# Altium footprint library SOT323-1.PcbLib: 1 footprints
Each footprint in its own frame and in the unit in brackets; x right, y up, seen from the top. Pads: shape width x height; smd on the part's side, far side on the other; paste and mask are expansions set on the pad; w line width, h text height; cw(c..) or ccw(c..) is an arc to the next point about the centre after c.
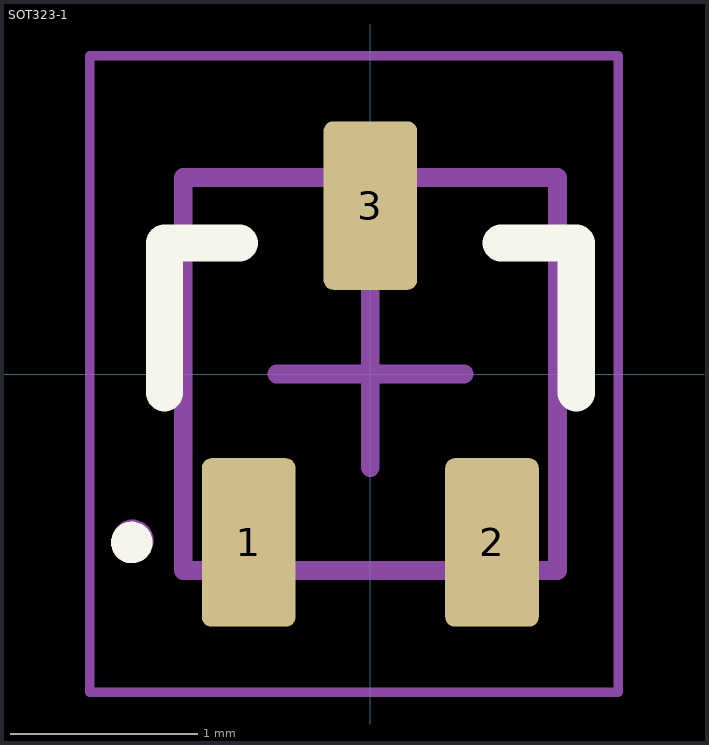
[diagram p0: the footprint, top view; thin cyan lines are the x and y axes]

## SOT323-1 [mm]
pads (3):
  rrect20% 0.5x0.9 smd: 1(-0.65,-0.9) 2(0.65,-0.9) 3(0,0.9)
Top Overlay:
  circle w0.12: c-1.275,-0.9 r0.051
  lines w0.2: -1.1,-0.1 -1.1,0.7 -0.7,0.7 ; 0.7,0.7 1.1,0.7 1.1,-0.1
Mechanical 1:
  circle w0.12: c-1.275,-0.9 r0.051
  circle w0.12: c-1.27,-0.889 r0.051
  lines w0.1: -1,-1.05 -1,1.05 1,1.05 1,-1.05 -1,-1.05
  text ".Designator" at -0.508,-0.127 h0.38
Mechanical 15:
  lines w0.05: -1.5,-1.7 1.325,-1.7 1.325,1.7 -1.5,1.7 -1.5,-1.7
  lines w0.1: -0.5,0 0.5,0 ; 0,-0.5 0,0.5
3D body "2sk3663-t1-a.stp": height 0.95, standoff 0, extent -1,-1.05 1,1.05